# Altium schematic symbol library GM-402B.SchLib: 1 symbol
Pins are listed as number, name and electrical type; pins without a type are passive.

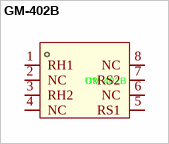
[diagram p0: symbol GM-402B]

## GM-402B
designator U?
The GM-402B is a compact MEMS-based combustible gas sensor by Winsen Electronics, designed to detect gases like methane (CH₄) and propane (C₃H₈) within a 1–10,000 ppm range. The sensor features an 8-pin SMD package with the following; Manufacturer: Winsen(炜盛); Add into BOM: yes; Symbol: GM-402B; Device: GM-402B; LCSC Part Name: 可燃气体传感器; Supplier Part: C99754; Manufacturer Part: GM-402B; Supplier Footprint: SMD-8P,5x5mm; JLCPCB Part Class: Extended Part; Datasheet: https://atta.szlcsc.com/upload/public/pdf/source/20170413/1492062922238.pdf; Supplier: LCSC; Convert to PCB: yes
footprint SENSORS-SMD_GM-402B (The GM-402B is a compact MEMS-based combustible gas sensor by Winsen Electronics, designed to detect gases like methane (CH₄) and propane (C₃H₈) within a 1–10,000 ppm range. It operates with a heater voltage of 2.8V ± 0.1V (AC or DC) and supports a circuit voltage up to 24V DC. The sensor features an 8-pin SMD package with the following configuration / Pin 1 (RH1) Heater terminal 1 / Pin 2 No connection / Pin 3 (RH2) Heater terminal 2 / Pin 4 No connection / Pin 5 (RS1) Sensor output terminal 1 / Pin 6 No connection / Pin 7 (RS2) Sensor output terminal 2 / Pin 8 No connection)
pins: 1 RH1, 2 NC, 3 RH2, 4 NC, 5 RS1, 6 NC, 7 RS2, 8 NC